# Altium footprint library WURTH_WE-SL1.PcbLib: 1 footprints
Each footprint in its own frame and in the unit in brackets; x right, y up, seen from the top. Pads: shape width x height; smd on the part's side, far side on the other; paste and mask are expansions set on the pad; w line width, h text height; cw(c..) or ccw(c..) is an arc to the next point about the centre after c.
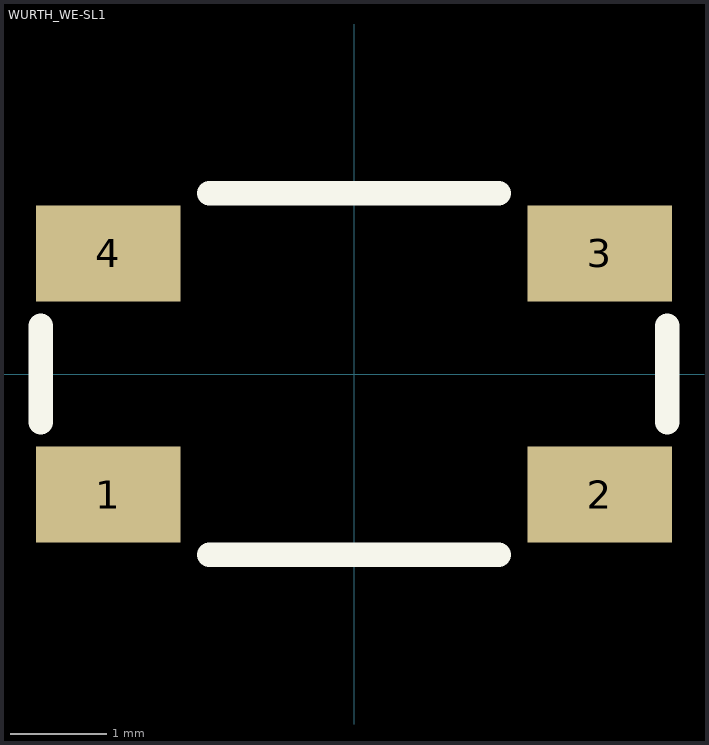
[diagram p0: the footprint, top view; thin cyan lines are the x and y axes]

## WURTH_WE-SL1 [mm]
pads (4):
  rect 1.5x1 smd: 1(-2.55,-1.25) 2(2.55,-1.25) 3(2.55,1.25) 4(-2.55,1.25)
Top Overlay:
  lines w0.254: -3.25,-0.5 -3.25,0.5 ; -1.5,-1.875 1.5,-1.875 ; -1.5,1.875 1.5,1.875 ; 3.25,-0.5 3.25,0.5
3D body: height 1.8, standoff 0, extent -3.25,-1.875 3.25,1.875